# EAGLE library part IN-12A (library nixietubes-russian)
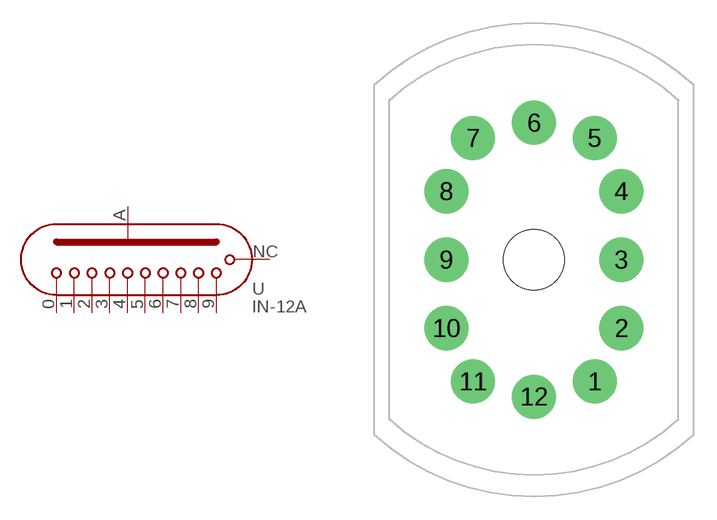
[diagram p0: symbol with the pads of IN-12; footprint IN-12]

Designator prefix -

## IN-12A  [IN-12]
1  A1
2  0
3  9
4  8
5  7
6  6
7  5
8  4
9  3
10  2
11  1
12  NC

## Footprint IN-12 (pad centres in mm)
This is the footprint suitable for the following nixie tubes: * IN-12A * IN-12B Tube dimensions: 21x32mm Height from PCB: 35mm Symbol Height: 18mm
drill 1.93: 1 4,-8; 2 5.75,-4.5; 3 5.75,0; 4 5.75,4.5; 5 4,8; 6 0,9; 7 -4,8; 8 -5.75,4.5; 9 -5.75,0; 10 -5.75,-4.5; 11 -4,-8; 12 0,-9
hole 4 at 0,0